# Altium footprint library linear-technology.PCBLIB: 28 footprints (part 1 of 2)
Each footprint in its own frame and in the unit in brackets; x right, y up, seen from the top. Pads: shape width x height; smd on the part's side, far side on the other; paste and mask are expansions set on the pad; w line width, h text height; cw(c..) or ccw(c..) is an arc to the next point about the centre after c.
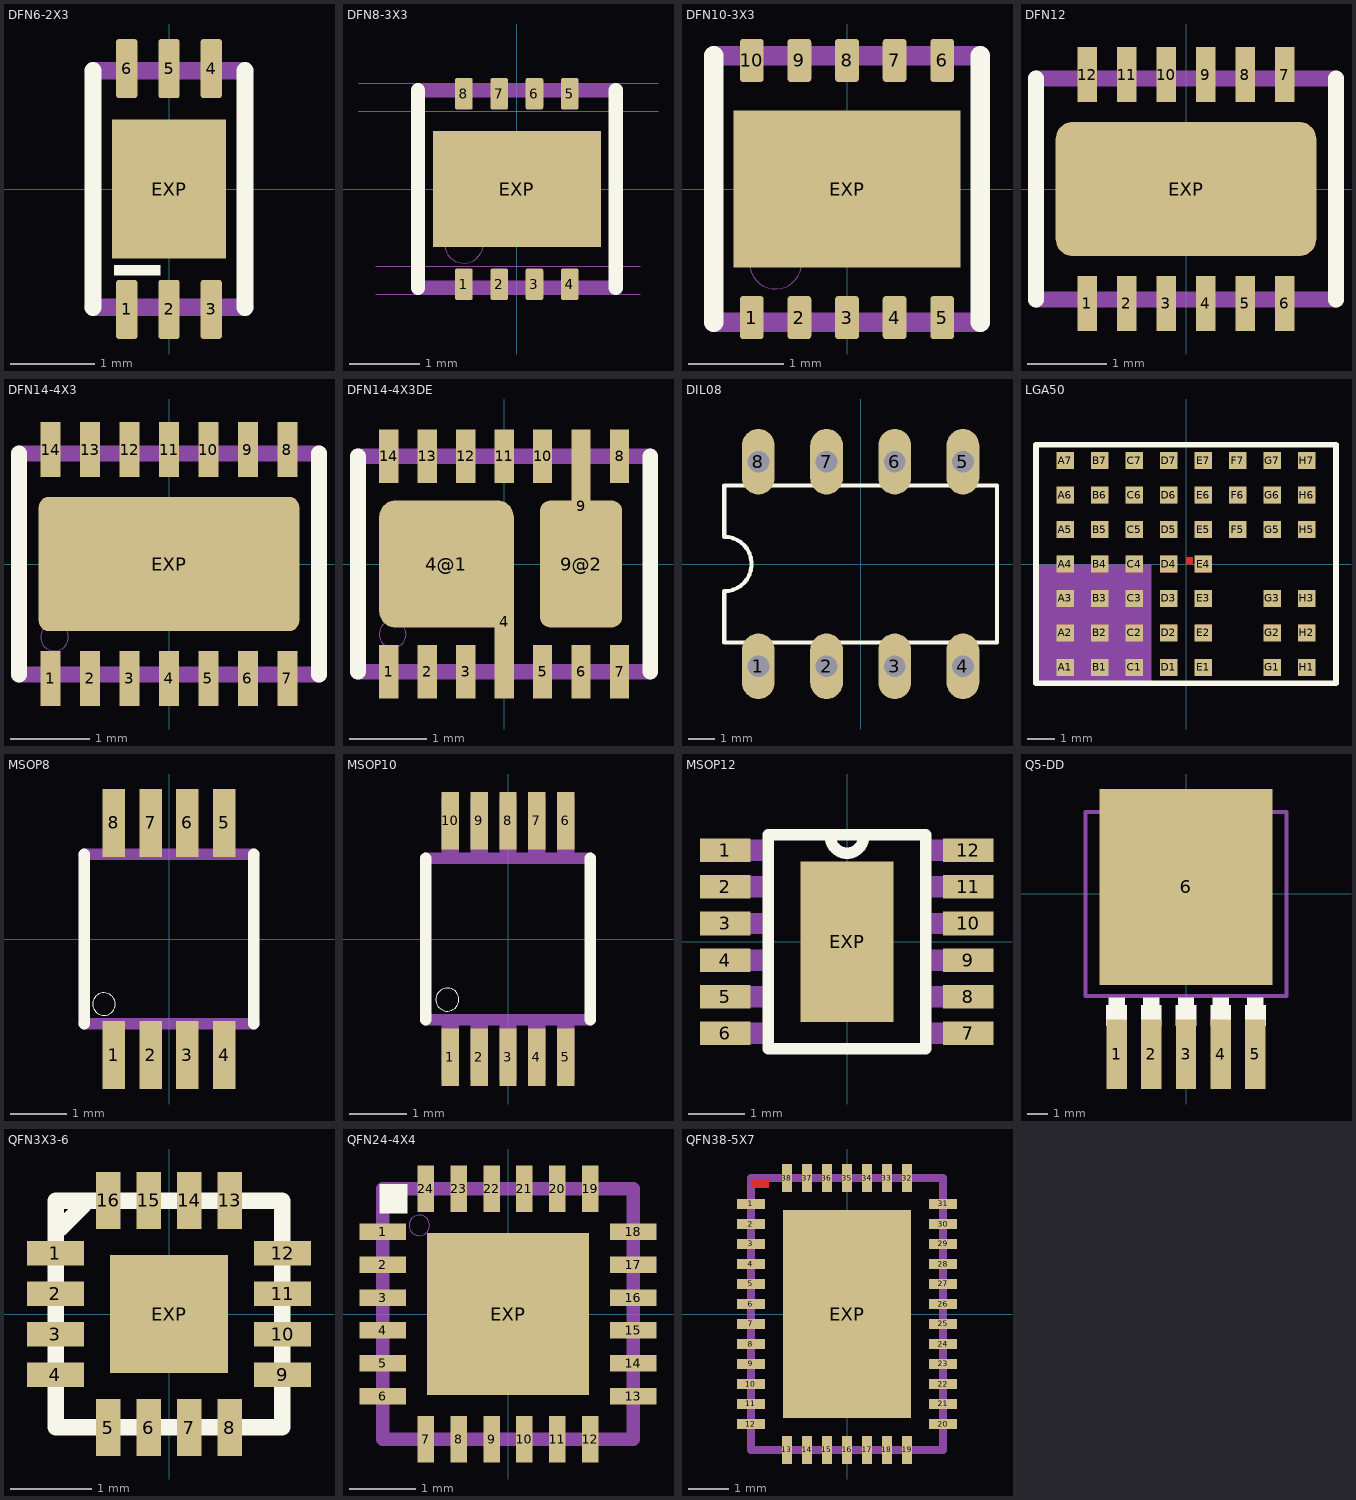
[diagram p0: the footprints below, top view; thin cyan lines are the x and y axes]

## DFN6-2X3 [mm]
pads (7):
  rrect25% 0.25x0.7 smd: 1(-0.5,-1.425) 2(0,-1.425) 3(0.5,-1.425) 4(0.5,1.425) 5(0,1.425) 6(-0.5,1.425)
  rect 1.35x1.65 smd: EXP(0,0)
Top Overlay:
  rectangle: -0.65,-1.025 -0.1,-0.9
  lines w0.203: -0.9,-1.4 -0.9,1.4 ; 0.9,-1.4 0.9,1.4
Mechanical 16:
  lines w0.203: -0.9,-1.4 0.9,-1.4 ; -0.9,1.4 0.9,1.4

## DFN8-3X3 [mm]
pads (9):
  rrect25% 0.25x0.45 smd: 1(-0.75,-1.35) 2(-0.25,-1.35) 3(0.25,-1.35) 4(0.75,-1.35) 5(0.75,1.35) 6(0.25,1.35) 7(-0.25,1.35) 8(-0.75,1.35)
  rect 2.38x1.65 smd: EXP(0,0)
Top Overlay:
  lines w0.203: -1.4,-1.4 -1.4,1.4 ; 1.4,-1.4 1.4,1.4
Top Paste:
  rectangle: -0.85,1.15 -0.65,1.55
  rectangle: -0.35,1.15 -0.15,1.55
  rectangle: 0.15,1.15 0.35,1.55
  rectangle: 0.65,1.15 0.85,1.55
  rectangle: -0.85,-1.55 -0.65,-1.15
  rectangle: -0.35,-1.55 -0.15,-1.15
  rectangle: 0.15,-1.55 0.35,-1.15
  rectangle: 0.65,-1.55 0.85,-1.15
  rectangle: -1.1,-0.75 1.125,0.75
Top Solder:
  rectangle: -0.9,1.1 -0.6,1.6
  rectangle: -0.4,1.1 -0.1,1.6
  rectangle: 0.1,1.1 0.4,1.6
  rectangle: 0.6,1.1 0.9,1.6
  rectangle: -0.9,-1.6 -0.6,-1.1
  rectangle: -0.4,-1.6 -0.1,-1.1
  rectangle: 0.1,-1.6 0.4,-1.1
  rectangle: 0.6,-1.6 0.9,-1.1
  region: 0,0 0.254,0 0.254,0.254 0,0.254
Mechanical 16:
  circle w0: c-0.75,-0.775 r0.275
  lines w0.203: -1.4,-1.4 1.4,-1.4 ; -1.4,1.4 1.4,1.4
Mechanical 19:
  lines w0: -2.25,1.1 2,1.1 ; -2.25,1.5 2,1.5 ; -2,-1.5 1.75,-1.5 ; -2,-1.1 1.75,-1.1

## DFN10-3X3 [mm]
pads (11):
  rrect25% 0.25x0.45 smd: 1(-1,-1.35) 2(-0.5,-1.35) 3(0,-1.35) 4(0.5,-1.35) 5(1,-1.35) 6(1,1.35) 7(0.5,1.35) 8(0,1.35) 9(-0.5,1.35) 10(-1,1.35)
  rect 2.38x1.65 smd: EXP(0,0)
Top Overlay:
  lines w0.203: -1.4,-1.4 -1.4,1.4 ; 1.4,-1.4 1.4,1.4
Mechanical 16:
  circle w0: c-0.75,-0.775 r0.275
  lines w0.203: -1.4,-1.4 1.4,-1.4 ; -1.4,1.4 1.4,1.4

## DFN12 [mm]
pads (13):
  rect 0.25x0.7 smd: 1(-1.25,-1.45) 2(-0.75,-1.45) 3(-0.25,-1.45) 4(0.25,-1.45) 5(0.75,-1.45) 6(1.25,-1.45) 7(1.25,1.45) 8(0.75,1.45) 9(0.25,1.45) 10(-0.25,1.45) 11(-0.75,1.45) 12(-1.25,1.45)
  rrect25% 3.3x1.7 smd: EXP(0,0)
Top Overlay:
  lines w0.203: -1.9,-1.4 -1.9,1.4 ; 1.9,-1.4 1.9,1.4
Top Paste:
  rectangle: -1.35,-1.775 -1.15,-1.125
  rectangle: -0.85,-1.775 -0.65,-1.125
  rectangle: -0.35,-1.775 -0.15,-1.125
  rectangle: 0.15,-1.775 0.35,-1.125
  rectangle: 0.65,-1.775 0.85,-1.125
  rectangle: 1.15,-1.775 1.35,-1.125
  region: 1.35,1.775 1.15,1.775 1.15,1.125 1.35,1.125
  region: 0.85,1.775 0.65,1.775 0.65,1.125 0.85,1.125
  region: 0.35,1.775 0.15,1.775 0.15,1.125 0.35,1.125
  region: -0.15,1.775 -0.35,1.775 -0.35,1.125 -0.15,1.125
  region: -0.65,1.775 -0.85,1.775 -0.85,1.125 -0.65,1.125
  region: -1.15,1.775 -1.35,1.775 -1.35,1.125 -1.15,1.125
  region: 0,0 0.254,0 0.254,0.254 0,0.254
Top Solder:
  rectangle: -1.4,-1.825 -1.1,-1.075
  rectangle: -0.9,-1.825 -0.6,-1.075
  rectangle: -0.4,-1.825 -0.1,-1.075
  rectangle: 0.1,-1.825 0.4,-1.075
  rectangle: 0.6,-1.825 0.9,-1.075
  rectangle: 1.1,-1.825 1.4,-1.075
  region: 1.4,1.825 1.1,1.825 1.1,1.075 1.4,1.075
  region: 0.9,1.825 0.6,1.825 0.6,1.075 0.9,1.075
  region: 0.4,1.825 0.1,1.825 0.1,1.075 0.4,1.075
  region: -0.1,1.825 -0.4,1.825 -0.4,1.075 -0.1,1.075
  region: -0.6,1.825 -0.9,1.825 -0.9,1.075 -0.6,1.075
  region: -1.1,1.825 -1.4,1.825 -1.4,1.075 -1.1,1.075
  region: 0,0 0.254,0 0.254,0.254 0,0.254
Mechanical 16:
  lines w0.203: -1.9,-1.4 1.9,-1.4 ; -1.9,1.4 1.9,1.4

## DFN14-4X3 [mm]
pads (15):
  rect 0.25x0.7 smd: 1(-1.5,-1.45) 2(-1,-1.45) 3(-0.5,-1.45) 4(0,-1.45) 5(0.5,-1.45) 6(1,-1.45) 7(1.5,-1.45) 8(1.5,1.45) 9(1,1.45) 10(0.5,1.45) 11(0,1.45) 12(-0.5,1.45) 13(-1,1.45) 14(-1.5,1.45)
  rrect15% 3.3x1.7 smd: EXP(0,0)
Top Overlay:
  lines w0.203: -1.9,-1.4 -1.9,1.4 ; 1.9,-1.4 1.9,1.4
Top Paste:
  region: 0,0 0.254,0 0.254,0.254 0,0.254
Top Solder:
  rectangle: -1.65,-1.825 -1.35,-1.075
  rectangle: -1.6,-1.775 -1.4,-1.125
  rectangle: -1.15,-1.825 -0.85,-1.075
  rectangle: -1.1,-1.775 -0.9,-1.125
  rectangle: -0.65,-1.825 -0.35,-1.075
  rectangle: -0.6,-1.775 -0.4,-1.125
  rectangle: -0.15,-1.825 0.15,-1.075
  rectangle: -0.1,-1.775 0.1,-1.125
  rectangle: 0.35,-1.825 0.65,-1.075
  rectangle: 0.4,-1.775 0.6,-1.125
  rectangle: 0.85,-1.825 1.15,-1.075
  rectangle: 0.9,-1.775 1.1,-1.125
  rectangle: 1.35,-1.825 1.65,-1.075
  rectangle: 1.4,-1.775 1.6,-1.125
  region: 1.65,1.825 1.35,1.825 1.35,1.075 1.65,1.075
  region: 1.6,1.775 1.4,1.775 1.4,1.125 1.6,1.125
  region: 1.15,1.825 0.85,1.825 0.85,1.075 1.15,1.075
  region: 1.1,1.775 0.9,1.775 0.9,1.125 1.1,1.125
  region: 0.65,1.825 0.35,1.825 0.35,1.075 0.65,1.075
  region: 0.6,1.775 0.4,1.775 0.4,1.125 0.6,1.125
  region: 0.15,1.825 -0.15,1.825 -0.15,1.075 0.15,1.075
  region: 0.1,1.775 -0.1,1.775 -0.1,1.125 0.1,1.125
  region: -0.35,1.825 -0.65,1.825 -0.65,1.075 -0.35,1.075
  region: -0.4,1.775 -0.6,1.775 -0.6,1.125 -0.4,1.125
  region: -0.85,1.825 -1.15,1.825 -1.15,1.075 -0.85,1.075
  region: -0.9,1.775 -1.1,1.775 -1.1,1.125 -0.9,1.125
  region: -1.35,1.825 -1.65,1.825 -1.65,1.075 -1.35,1.075
  region: -1.4,1.775 -1.6,1.775 -1.6,1.125 -1.4,1.125
  region: 0,0 0.254,0 0.254,0.254 0,0.254
Mechanical 16:
  circle w0: c-1.45,-0.925 r0.177
  lines w0.203: -1.9,-1.4 1.9,-1.4 ; -1.9,1.4 1.9,1.4

## DFN14-4X3DE [mm]
pads (16):
  rect 0.25x0.7 smd: 1(-1.5,-1.4) 2(-1,-1.4) 3(-0.5,-1.4) 5(0.5,-1.4) 6(1,-1.4) 7(1.5,-1.4) 8(1.5,1.4) 10(0.5,1.4) 11(0,1.4) 12(-0.5,1.4) 13(-1,1.4) 14(-1.5,1.4)
  rect 0.25x2 smd: 4(0,-0.75) 9(1,0.75)
  rrect25% 1.75x1.65 smd: 4@1(-0.75,0)
  rrect25% 1.07x1.65 smd: 9@2(1,0)
Top Overlay:
  lines w0.203: -1.9,-1.4 -1.9,1.4 ; 1.9,-1.4 1.9,1.4
Top Paste:
  rectangle: -1.55,-0.75 0.05,0.75
  rectangle: 0.525,-0.75 1.475,0.75
  rectangle: -1.6,-1.725 -1.4,-1.075
  rectangle: -1.1,-1.725 -0.9,-1.075
  rectangle: -0.6,-1.725 -0.4,-1.075
  rectangle: -0.1,-1.725 0.1,-1.075
  rectangle: 0.4,-1.725 0.6,-1.075
  rectangle: 0.9,-1.725 1.1,-1.075
  rectangle: 1.4,-1.725 1.6,-1.075
  region: 1.6,1.725 1.4,1.725 1.4,1.075 1.6,1.075
  region: 1.1,1.725 0.9,1.725 0.9,1.075 1.1,1.075
  region: 0.6,1.725 0.4,1.725 0.4,1.075 0.6,1.075
  region: 0.1,1.725 -0.1,1.725 -0.1,1.075 0.1,1.075
  region: -0.4,1.725 -0.6,1.725 -0.6,1.075 -0.4,1.075
  region: -0.9,1.725 -1.1,1.725 -1.1,1.075 -0.9,1.075
  region: -1.4,1.725 -1.6,1.725 -1.6,1.075 -1.4,1.075
Top Solder:
  rectangle: -1.65,-1.775 -1.35,-1.025
  rectangle: -1.625,-0.825 0.125,0.825
  rectangle: 0.45,-0.825 1.55,0.825
  rectangle: -1.15,-1.775 -0.85,-1.025
  rectangle: -0.65,-1.775 -0.35,-1.025
  rectangle: -0.15,-1.775 0.15,-1.025
  rectangle: 0.35,-1.775 0.65,-1.025
  rectangle: 0.85,-1.775 1.15,-1.025
  rectangle: 1.35,-1.775 1.65,-1.025
  region: 1.65,1.775 1.35,1.775 1.35,1.025 1.65,1.025
  region: 1.15,1.775 0.85,1.775 0.85,1.025 1.15,1.025
  region: 0.65,1.775 0.35,1.775 0.35,1.025 0.65,1.025
  region: 0.15,1.775 -0.15,1.775 -0.15,1.025 0.15,1.025
  region: -0.35,1.775 -0.65,1.775 -0.65,1.025 -0.35,1.025
  region: -0.85,1.775 -1.15,1.775 -1.15,1.025 -0.85,1.025
  region: -1.35,1.775 -1.65,1.775 -1.65,1.025 -1.35,1.025
Mechanical 16:
  circle w0: c-1.45,-0.913 r0.176
  lines w0.203: -1.9,-1.4 1.9,-1.4 ; -1.9,1.4 1.9,1.4

## DIL08 [mil]
pads (8):
  oval 48x96 hole 32: 1(-150,-150) 2(-50,-150) 3(50,-150) 4(150,-150) 5(150,150) 6(50,150) 7(-50,150) 8(-150,150)
Top Overlay:
  lines w6: -200,-115 200,-115 200,115 -200,115 -200,40 cw(c-200,0) -200,-40 -200,-115

## LGA50 [mm]
pads (50):
  rect 0.635x0.635 smd: A1(-4.445,-3.81) A2(-4.445,-2.54) A3(-4.445,-1.27) A4(-4.445,0) A5(-4.445,1.27) A6(-4.445,2.54) A7(-4.445,3.81) B1(-3.175,-3.81) B2(-3.175,-2.54) B3(-3.175,-1.27) B4(-3.175,0) B5(-3.175,1.27) B6(-3.175,2.54) B7(-3.175,3.81) C1(-1.905,-3.81) C2(-1.905,-2.54) C3(-1.905,-1.27) C4(-1.905,0) C5(-1.905,1.27) C6(-1.905,2.54) C7(-1.905,3.81) D1(-0.635,-3.81) D2(-0.635,-2.54) D3(-0.635,-1.27) D4(-0.635,0) D5(-0.635,1.27) D6(-0.635,2.54) D7(-0.635,3.81) E1(0.635,-3.81) E2(0.635,-2.54) E3(0.635,-1.27) E4(0.635,0) E5(0.635,1.27) E6(0.635,2.54) E7(0.635,3.81) F5(1.905,1.27) F6(1.905,2.54) F7(1.905,3.81) G1(3.175,-3.81) G2(3.175,-2.54) G3(3.175,-1.27) G5(3.175,1.27) G6(3.175,2.54) G7(3.175,3.81) H1(4.445,-3.81) H2(4.445,-2.54) H3(4.445,-1.27) H5(4.445,1.27) H6(4.445,2.54) H7(4.445,3.81)
Top Layer:
  rectangle: -3.48,-4.115 -2.87,-3.505
  rectangle: -2.21,-4.115 -1.6,-3.505
  rectangle: -0.94,-4.115 -0.33,-3.505
  rectangle: 0.33,-4.115 0.94,-3.505
  rectangle: 2.87,-4.115 3.48,-3.505
  rectangle: 4.14,-4.115 4.75,-3.505
  rectangle: -4.75,-2.845 -4.14,-2.235
  rectangle: -3.48,-2.845 -2.87,-2.235
  rectangle: -2.21,-2.845 -1.6,-2.235
  rectangle: -0.94,-2.845 -0.33,-2.235
  rectangle: 0.33,-2.845 0.94,-2.235
  rectangle: 2.87,-2.845 3.48,-2.235
  rectangle: 4.14,-2.845 4.75,-2.235
  rectangle: -4.75,-1.575 -4.14,-0.965
  rectangle: -3.48,-1.575 -2.87,-0.965
  rectangle: -2.21,-1.575 -1.6,-0.965
  rectangle: -0.94,-1.575 -0.33,-0.965
  rectangle: 0.33,-1.575 0.94,-0.965
  rectangle: 2.87,-1.575 3.48,-0.965
  rectangle: 4.14,-1.575 4.75,-0.965
  rectangle: -4.75,-0.305 -4.14,0.305
  rectangle: -3.48,-0.305 -2.87,0.305
  rectangle: -2.21,-0.305 -1.6,0.305
  rectangle: -0.94,-0.305 -0.33,0.305
  rectangle: 0.33,-0.305 0.94,0.305
  rectangle: -4.75,0.965 -4.14,1.575
  rectangle: -3.48,0.965 -2.87,1.575
  rectangle: -2.21,0.965 -1.6,1.575
  rectangle: -0.94,0.965 -0.33,1.575
  rectangle: 0.33,0.965 0.94,1.575
  rectangle: 1.6,0.965 2.21,1.575
  rectangle: 2.87,0.965 3.48,1.575
  rectangle: 4.14,0.965 4.75,1.575
  rectangle: -4.75,2.235 -4.14,2.845
  rectangle: -3.48,2.235 -2.87,2.845
  rectangle: -2.21,2.235 -1.6,2.845
  rectangle: -0.94,2.235 -0.33,2.845
  rectangle: 0.33,2.235 0.94,2.845
  rectangle: 1.6,2.235 2.21,2.845
  rectangle: 2.87,2.235 3.48,2.845
  rectangle: 4.14,2.235 4.75,2.845
  rectangle: -4.75,3.505 -4.14,4.115
  rectangle: -3.48,3.505 -2.87,4.115
  rectangle: -2.21,3.505 -1.6,4.115
  rectangle: -0.94,3.505 -0.33,4.115
  rectangle: 0.33,3.505 0.94,4.115
  rectangle: 1.6,3.505 2.21,4.115
  rectangle: 2.87,3.505 3.48,4.115
  rectangle: 4.14,3.505 4.75,4.115
  region: 0,0 0.254,0 0.254,0.254 0,0.254
Top Overlay:
  lines w0.203: -5.525,-4.4 5.525,-4.4 5.525,4.4 -5.525,4.4 -5.525,-4.4
Top Solder:
  region: 0,0 0.254,0 0.254,0.254 0,0.254
Mechanical 16:
  rectangle: -5.5,-4.375 -1.275,-0.025

## MSOP8 [mm]
pads (8):
  rect 0.4x1.2 smd: 1(-0.975,-2.05) 2(-0.325,-2.05) 3(0.325,-2.05) 4(0.975,-2.05) 5(0.975,2.05) 6(0.325,2.05) 7(-0.325,2.05) 8(-0.975,2.05)
Top Overlay:
  circle w0: c-1.15,-1.15 r0.2
  lines w0.203: -1.5,-1.5 -1.5,1.5 ; 1.5,-1.5 1.5,1.5
Mechanical 16:
  rectangle: -1.125,-2.45 -0.825,-1.55
  rectangle: -0.475,-2.45 -0.175,-1.55
  rectangle: 0.175,-2.45 0.475,-1.55
  rectangle: 0.825,-2.45 1.125,-1.55
  rectangle: 0.825,1.55 1.125,2.45
  rectangle: 0.175,1.55 0.475,2.45
  rectangle: -0.475,1.55 -0.175,2.45
  rectangle: -1.125,1.55 -0.825,2.45
  lines w0.203: -1.5,-1.5 1.5,-1.5 ; -1.5,1.5 1.5,1.5

## MSOP10 [mm]
pads (10):
  rect 0.3x1 smd: 1(-1,-2.05) 2(-0.5,-2.05) 3(0,-2.05) 4(0.5,-2.05) 5(1,-2.05) 6(1,2.05) 7(0.5,2.05) 8(0,2.05) 9(-0.5,2.05) 10(-1,2.05)
Top Overlay:
  circle w0: c-1.05,-1.05 r0.2
  lines w0.203: -1.425,-1.4 -1.425,1.4 ; 1.425,-1.4 1.425,1.4
Top Paste:
  rectangle: -1.125,-2.5 -0.875,-1.625
  rectangle: -0.625,-2.5 -0.375,-1.625
  rectangle: -0.125,-2.5 0.125,-1.625
  rectangle: 0.375,-2.5 0.625,-1.625
  rectangle: 0.875,-2.5 1.125,-1.625
  region: 1.125,2.5 0.875,2.5 0.875,1.625 1.125,1.625
  region: 0.625,2.5 0.375,2.5 0.375,1.625 0.625,1.625
  region: 0.125,2.5 -0.125,2.5 -0.125,1.625 0.125,1.625
  region: -0.375,2.5 -0.625,2.5 -0.625,1.625 -0.375,1.625
  region: -0.875,2.5 -1.125,2.5 -1.125,1.625 -0.875,1.625
Top Solder:
  rectangle: -1.2,-2.6 -0.8,-1.5
  rectangle: -0.7,-2.6 -0.3,-1.5
  rectangle: -0.2,-2.6 0.2,-1.5
  rectangle: 0.3,-2.6 0.7,-1.5
  rectangle: 0.8,-2.6 1.2,-1.5
  region: 1.2,2.6 0.8,2.6 0.8,1.5 1.2,1.5
  region: 0.7,2.6 0.3,2.6 0.3,1.5 0.7,1.5
  region: 0.2,2.6 -0.2,2.6 -0.2,1.5 0.2,1.5
  region: -0.3,2.6 -0.7,2.6 -0.7,1.5 -0.3,1.5
  region: -0.8,2.6 -1.2,2.6 -1.2,1.5 -0.8,1.5
Mechanical 16:
  rectangle: -1.15,-2.45 -0.85,-1.475
  rectangle: -0.65,-2.45 -0.35,-1.475
  rectangle: -0.15,-2.45 0.15,-1.475
  rectangle: 0.35,-2.45 0.65,-1.475
  rectangle: 0.85,-2.45 1.15,-1.475
  region: 1.15,2.45 0.85,2.45 0.85,1.475 1.15,1.475
  region: 0.65,2.45 0.35,2.45 0.35,1.475 0.65,1.475
  region: 0.15,2.45 -0.15,2.45 -0.15,1.475 0.15,1.475
  region: -0.35,2.45 -0.65,2.45 -0.65,1.475 -0.35,1.475
  region: -0.85,2.45 -1.15,2.45 -1.15,1.475 -0.85,1.475
  lines w0.203: -1.425,-1.4 1.425,-1.4 ; -1.425,1.4 1.425,1.4

## MSOP12 [mm]
pads (13):
  rect 0.9x0.42 smd: 1(-2.163,1.625) 2(-2.163,0.975) 3(-2.163,0.325) 4(-2.163,-0.325) 5(-2.163,-0.975) 6(-2.163,-1.625) 7(2.15,-1.625) 8(2.15,-0.975) 9(2.15,-0.325) 10(2.15,0.325) 11(2.15,0.975) 12(2.15,1.625)
  rect 1.65x2.85 smd: EXP(0,0)
Top Overlay:
  lines w0.203: -0.3,1.874 ccw(c0,1.874) 0.3,1.874 ; -1.399,-1.898 1.399,-1.898 1.399,1.898 -1.399,1.898 -1.399,-1.898
Top Solder:
  rectangle: -2.662,1.388 -1.675,1.863
  rectangle: -2.662,0.738 -1.675,1.213
  rectangle: -2.662,0.087 -1.675,0.563
  rectangle: -2.662,-0.563 -1.675,-0.087
  rectangle: -2.662,-1.213 -1.675,-0.738
  rectangle: -2.662,-1.863 -1.675,-1.388
  region: 2.662,-1.388 1.675,-1.388 1.675,-1.863 2.662,-1.863
  region: 2.662,-0.738 1.675,-0.738 1.675,-1.213 2.662,-1.213
  region: 2.662,-0.087 1.675,-0.087 1.675,-0.563 2.662,-0.563
  region: 2.662,0.563 1.675,0.563 1.675,0.087 2.662,0.087
  region: 2.662,1.213 1.675,1.213 1.675,0.738 2.662,0.738
  region: 2.662,1.863 1.675,1.863 1.675,1.388 2.662,1.388
Mechanical 16:
  rectangle: -2.45,1.435 -1.5,1.815
  rectangle: -2.45,0.785 -1.5,1.165
  rectangle: -2.45,0.135 -1.5,0.515
  rectangle: -2.45,-0.515 -1.5,-0.135
  rectangle: -2.45,-1.165 -1.5,-0.785
  rectangle: -2.45,-1.815 -1.5,-1.435
  rectangle: 1.5,-1.815 2.45,-1.435
  rectangle: 1.5,-1.165 2.45,-0.785
  rectangle: 1.5,-0.515 2.45,-0.135
  rectangle: 1.5,0.135 2.45,0.515
  rectangle: 1.5,0.785 2.45,1.165
  rectangle: 1.5,1.435 2.45,1.815

## Q5-DD [mm]
pads (6):
  rect 1x3.4 smd: 1(-3.4,-7.875) 2(-1.7,-7.875) 3(0,-7.875) 4(1.7,-7.875) 5(3.4,-7.875)
  rect 8.5x9.6 smd: 6(0,0.325)
Top Overlay:
  rectangle: -0.508,-6.477 0.508,-5.461
  rectangle: -3.908,-6.477 -2.892,-5.461
  rectangle: -2.208,-6.477 -1.192,-5.461
  rectangle: 1.192,-6.477 2.208,-5.461
  rectangle: 2.892,-6.477 3.908,-5.461
  rectangle: -3.8,-5.5 -3,-5.1
  rectangle: -2.1,-5.5 -1.3,-5.1
  rectangle: -0.4,-5.5 0.4,-5.1
  rectangle: 1.3,-5.5 2.1,-5.1
  rectangle: 3,-5.5 3.8,-5.1
Mechanical 16:
  circle w0.254: c0,-0.175 r1
  rectangle: -0.381,-8.768 0.381,-5.974
  rectangle: -3.781,-8.768 -3.019,-5.974
  rectangle: -2.081,-8.768 -1.319,-5.974
  rectangle: 1.319,-8.768 2.081,-5.974
  rectangle: 3.019,-8.768 3.781,-5.974
  region: 0,0 0.254,0 0.254,0.254 0,0.254
  lines w0.203: -4.917,-5.014 4.917,-5.014 4.917,3.99 -4.917,3.99 -4.917,-5.014

## QFN3X3-6 [mm]
pads (17):
  rect 0.7x0.3 smd: 1(-1.4,0.75) 2(-1.4,0.25) 3(-1.4,-0.25) 4(-1.4,-0.75) 9(1.4,-0.75) 10(1.4,-0.25) 11(1.4,0.25) 12(1.4,0.75)
  rect 0.3x0.7 smd: 5(-0.75,-1.4) 6(-0.25,-1.4) 7(0.25,-1.4) 8(0.75,-1.4) 13(0.75,1.4) 14(0.25,1.4) 15(-0.25,1.4) 16(-0.75,1.4)
  rect 1.45x1.45 smd: EXP(0,0)
Top Overlay:
  lines w0.203: -1.348,1.05 -1.05,1.348 ; -1.399,-1.399 1.399,-1.399 1.399,1.399 -1.399,1.399 -1.399,-1.399
Top Solder:
  rectangle: -1.85,0.55 -1,0.95
  rectangle: -1.85,0.05 -1,0.45
  rectangle: -1.85,-0.45 -1,-0.05
  rectangle: -1.85,-0.95 -1,-0.55
  region: -0.55,-1.85 -0.55,-1 -0.95,-1 -0.95,-1.85
  region: -0.05,-1.85 -0.05,-1 -0.45,-1 -0.45,-1.85
  region: 0.45,-1.85 0.45,-1 0.05,-1 0.05,-1.85
  region: 0.95,-1.85 0.95,-1 0.55,-1 0.55,-1.85
  region: 1.85,-0.55 1,-0.55 1,-0.95 1.85,-0.95
  region: 1.85,-0.05 1,-0.05 1,-0.45 1.85,-0.45
  region: 1.85,0.45 1,0.45 1,0.05 1.85,0.05
  region: 1.85,0.95 1,0.95 1,0.55 1.85,0.55
  region: 0.55,1.85 0.55,1 0.95,1 0.95,1.85
  region: 0.05,1.85 0.05,1 0.45,1 0.45,1.85
  region: -0.45,1.85 -0.45,1 -0.05,1 -0.05,1.85
  region: -0.95,1.85 -0.95,1 -0.55,1 -0.55,1.85
  rectangle: -0.8,-0.8 0.8,0.8

## QFN3X3-16 [mm]

## QFN24-4X4 [mm]
pads (25):
  rect 0.7x0.25 smd: 1(-1.9,1.25) 2(-1.9,0.75) 3(-1.9,0.25) 4(-1.9,-0.25) 5(-1.9,-0.75) 6(-1.9,-1.25) 13(1.9,-1.25) 14(1.9,-0.75) 15(1.9,-0.25) 16(1.9,0.25) 17(1.9,0.75) 18(1.9,1.25)
  rect 0.25x0.7 smd: 7(-1.25,-1.9) 8(-0.75,-1.9) 9(-0.25,-1.9) 10(0.25,-1.9) 11(0.75,-1.9) 12(1.25,-1.9) 19(1.25,1.9) 20(0.75,1.9) 21(0.25,1.9) 22(-0.25,1.9) 23(-0.75,1.9) 24(-1.25,1.9)
  rect 2.45x2.45 smd: EXP(0,0)
Top Overlay:
  rectangle: -1.95,1.525 -1.525,1.975
Top Paste:
  rectangle: -2.2,1.15 -1.575,1.35
  rectangle: -2.2,0.65 -1.575,0.85
  rectangle: -2.2,0.15 -1.575,0.35
  rectangle: -2.2,-0.35 -1.575,-0.15
  rectangle: -2.2,-0.85 -1.575,-0.65
  rectangle: -2.2,-1.35 -1.575,-1.15
  region: -1.15,-2.2 -1.15,-1.575 -1.35,-1.575 -1.35,-2.2
  region: -0.65,-2.2 -0.65,-1.575 -0.85,-1.575 -0.85,-2.2
  region: -0.15,-2.2 -0.15,-1.575 -0.35,-1.575 -0.35,-2.2
  region: 0.35,-2.2 0.35,-1.575 0.15,-1.575 0.15,-2.2
  region: 0.85,-2.2 0.85,-1.575 0.65,-1.575 0.65,-2.2
  region: 1.35,-2.2 1.35,-1.575 1.15,-1.575 1.15,-2.2
  region: 2.2,-1.15 1.575,-1.15 1.575,-1.35 2.2,-1.35
  region: 2.2,-0.65 1.575,-0.65 1.575,-0.85 2.2,-0.85
  region: 2.2,-0.15 1.575,-0.15 1.575,-0.35 2.2,-0.35
  region: 2.2,0.35 1.575,0.35 1.575,0.15 2.2,0.15
  region: 2.2,0.85 1.575,0.85 1.575,0.65 2.2,0.65
  region: 2.2,1.35 1.575,1.35 1.575,1.15 2.2,1.15
  region: 1.15,2.2 1.15,1.575 1.35,1.575 1.35,2.2
  region: 0.65,2.2 0.65,1.575 0.85,1.575 0.85,2.2
  region: 0.15,2.2 0.15,1.575 0.35,1.575 0.35,2.2
  region: -0.35,2.2 -0.35,1.575 -0.15,1.575 -0.15,2.2
  region: -0.85,2.2 -0.85,1.575 -0.65,1.575 -0.65,2.2
  region: -1.35,2.2 -1.35,1.575 -1.15,1.575 -1.15,2.2
  region: 0,0 0.254,0 0.254,0.254 0,0.254
Top Solder:
  rectangle: -2.275,1.1 -1.525,1.4
  rectangle: -2.275,0.6 -1.525,0.9
  rectangle: -2.275,0.1 -1.525,0.4
  rectangle: -2.275,-0.4 -1.525,-0.1
  rectangle: -2.275,-0.9 -1.525,-0.6
  rectangle: -2.275,-1.4 -1.525,-1.1
  region: -1.1,-2.275 -1.1,-1.525 -1.4,-1.525 -1.4,-2.275
  region: -0.6,-2.275 -0.6,-1.525 -0.9,-1.525 -0.9,-2.275
  region: -0.1,-2.275 -0.1,-1.525 -0.4,-1.525 -0.4,-2.275
  region: 0.4,-2.275 0.4,-1.525 0.1,-1.525 0.1,-2.275
  region: 0.9,-2.275 0.9,-1.525 0.6,-1.525 0.6,-2.275
  region: 1.4,-2.275 1.4,-1.525 1.1,-1.525 1.1,-2.275
  region: 2.275,-1.1 1.525,-1.1 1.525,-1.4 2.275,-1.4
  region: 2.275,-0.6 1.525,-0.6 1.525,-0.9 2.275,-0.9
  region: 2.275,-0.1 1.525,-0.1 1.525,-0.4 2.275,-0.4
  region: 2.275,0.4 1.525,0.4 1.525,0.1 2.275,0.1
  region: 2.275,0.9 1.525,0.9 1.525,0.6 2.275,0.6
  region: 2.275,1.4 1.525,1.4 1.525,1.1 2.275,1.1
  region: 1.1,2.275 1.1,1.525 1.4,1.525 1.4,2.275
  region: 0.6,2.275 0.6,1.525 0.9,1.525 0.9,2.275
  region: 0.1,2.275 0.1,1.525 0.4,1.525 0.4,2.275
  region: -0.4,2.275 -0.4,1.525 -0.1,1.525 -0.1,2.275
  region: -0.9,2.275 -0.9,1.525 -0.6,1.525 -0.6,2.275
  region: -1.4,2.275 -1.4,1.525 -1.1,1.525 -1.1,2.275
  region: 0,0 0.254,0 0.254,0.254 0,0.254
Mechanical 16:
  circle w0: c-1.345,1.345 r0.155
  lines w0.203: -1.9,-1.9 1.9,-1.9 1.9,1.9 -1.9,1.9 -1.9,-1.9

## QFN38-5X7 [mm]
pads (39):
  rect 0.7x0.25 smd: 1(-2.4,2.75) 2(-2.4,2.25) 3(-2.4,1.75) 4(-2.4,1.25) 5(-2.4,0.75) 6(-2.4,0.25) 7(-2.4,-0.25) 8(-2.4,-0.75) 9(-2.4,-1.25) 10(-2.4,-1.75) 11(-2.4,-2.25) 12(-2.4,-2.75) 20(2.4,-2.75) 21(2.4,-2.25) 22(2.4,-1.75) 23(2.4,-1.25) 24(2.4,-0.75) 25(2.4,-0.25) 26(2.4,0.25) 27(2.4,0.75) 28(2.4,1.25) 29(2.4,1.75) 30(2.4,2.25) 31(2.4,2.75)
  rect 0.25x0.7 smd: 13(-1.5,-3.4) 14(-1,-3.4) 15(-0.5,-3.4) 16(0,-3.4) 17(0.5,-3.4) 18(1,-3.4) 19(1.5,-3.4) 32(1.5,3.4) 33(1,3.4) 34(0.5,3.4) 35(0,3.4) 36(-0.5,3.4) 37(-1,3.4) 38(-1.5,3.4)
  rect 3.2x5.2 smd: EXP(0,0)
Top Layer:
  rectangle: -2.375,3.15 -1.95,3.375
Top Paste:
  rectangle: -2.725,2.65 -2.1,2.85
  rectangle: -1.525,-2.525 1.525,2.525
  rectangle: -2.725,2.15 -2.1,2.35
  rectangle: -2.725,1.65 -2.1,1.85
  rectangle: -2.725,1.15 -2.1,1.35
  rectangle: -2.725,0.65 -2.1,0.85
  rectangle: -2.725,0.15 -2.1,0.35
  rectangle: -2.725,-0.35 -2.1,-0.15
  rectangle: -2.725,-0.85 -2.1,-0.65
  rectangle: -2.725,-1.35 -2.1,-1.15
  rectangle: -2.725,-1.85 -2.1,-1.65
  rectangle: -2.725,-2.35 -2.1,-2.15
  rectangle: -2.725,-2.85 -2.1,-2.65
  region: -1.4,-3.725 -1.4,-3.1 -1.6,-3.1 -1.6,-3.725
  region: -0.9,-3.725 -0.9,-3.1 -1.1,-3.1 -1.1,-3.725
  region: -0.4,-3.725 -0.4,-3.1 -0.6,-3.1 -0.6,-3.725
  region: 0.1,-3.725 0.1,-3.1 -0.1,-3.1 -0.1,-3.725
  region: 0.6,-3.725 0.6,-3.1 0.4,-3.1 0.4,-3.725
  region: 1.1,-3.725 1.1,-3.1 0.9,-3.1 0.9,-3.725
  region: 1.6,-3.725 1.6,-3.1 1.4,-3.1 1.4,-3.725
  region: 2.725,-2.65 2.1,-2.65 2.1,-2.85 2.725,-2.85
  region: 2.725,-2.15 2.1,-2.15 2.1,-2.35 2.725,-2.35
  region: 2.725,-1.65 2.1,-1.65 2.1,-1.85 2.725,-1.85
  region: 2.725,-1.15 2.1,-1.15 2.1,-1.35 2.725,-1.35
  region: 2.725,-0.65 2.1,-0.65 2.1,-0.85 2.725,-0.85
  region: 2.725,-0.15 2.1,-0.15 2.1,-0.35 2.725,-0.35
  region: 2.725,0.35 2.1,0.35 2.1,0.15 2.725,0.15
  region: 2.725,0.85 2.1,0.85 2.1,0.65 2.725,0.65
  region: 2.725,1.35 2.1,1.35 2.1,1.15 2.725,1.15
  region: 2.725,1.85 2.1,1.85 2.1,1.65 2.725,1.65
  region: 2.725,2.35 2.1,2.35 2.1,2.15 2.725,2.15
  region: 2.725,2.85 2.1,2.85 2.1,2.65 2.725,2.65
  region: 1.4,3.725 1.4,3.1 1.6,3.1 1.6,3.725
  region: 0.9,3.725 0.9,3.1 1.1,3.1 1.1,3.725
  region: 0.4,3.725 0.4,3.1 0.6,3.1 0.6,3.725
  region: -0.1,3.725 -0.1,3.1 0.1,3.1 0.1,3.725
  region: -0.6,3.725 -0.6,3.1 -0.4,3.1 -0.4,3.725
  region: -1.1,3.725 -1.1,3.1 -0.9,3.1 -0.9,3.725
  region: -1.6,3.725 -1.6,3.1 -1.4,3.1 -1.4,3.725
Top Solder:
  rectangle: -2.8,2.575 -2,2.925
  rectangle: -1.675,-2.65 1.65,2.65
  rectangle: -2.8,2.075 -2,2.425
  rectangle: -2.8,1.575 -2,1.925
  rectangle: -2.8,1.075 -2,1.425
  rectangle: -2.8,0.575 -2,0.925
  rectangle: -2.8,0.075 -2,0.425
  rectangle: -2.8,-0.425 -2,-0.075
  rectangle: -2.8,-0.925 -2,-0.575
  rectangle: -2.8,-1.425 -2,-1.075
  rectangle: -2.8,-1.925 -2,-1.575
  rectangle: -2.8,-2.425 -2,-2.075
  rectangle: -2.8,-2.925 -2,-2.575
  region: -1.325,-3.8 -1.325,-3 -1.675,-3 -1.675,-3.8
  region: -0.825,-3.8 -0.825,-3 -1.175,-3 -1.175,-3.8
  region: -0.325,-3.8 -0.325,-3 -0.675,-3 -0.675,-3.8
  region: 0.175,-3.8 0.175,-3 -0.175,-3 -0.175,-3.8
  region: 0.675,-3.8 0.675,-3 0.325,-3 0.325,-3.8
  region: 1.175,-3.8 1.175,-3 0.825,-3 0.825,-3.8
  region: 1.675,-3.8 1.675,-3 1.325,-3 1.325,-3.8
  region: 2.8,-2.575 2,-2.575 2,-2.925 2.8,-2.925
  region: 2.8,-2.075 2,-2.075 2,-2.425 2.8,-2.425
  region: 2.8,-1.575 2,-1.575 2,-1.925 2.8,-1.925
  region: 2.8,-1.075 2,-1.075 2,-1.425 2.8,-1.425
  region: 2.8,-0.575 2,-0.575 2,-0.925 2.8,-0.925
  region: 2.8,-0.075 2,-0.075 2,-0.425 2.8,-0.425
  region: 2.8,0.425 2,0.425 2,0.075 2.8,0.075
  region: 2.8,0.925 2,0.925 2,0.575 2.8,0.575
  region: 2.8,1.425 2,1.425 2,1.075 2.8,1.075
  region: 2.8,1.925 2,1.925 2,1.575 2.8,1.575
  region: 2.8,2.425 2,2.425 2,2.075 2.8,2.075
  region: 2.8,2.925 2,2.925 2,2.575 2.8,2.575
  region: 1.325,3.8 1.325,3 1.675,3 1.675,3.8
  region: 0.825,3.8 0.825,3 1.175,3 1.175,3.8
  region: 0.325,3.8 0.325,3 0.675,3 0.675,3.8
  region: -0.175,3.8 -0.175,3 0.175,3 0.175,3.8
  region: -0.675,3.8 -0.675,3 -0.325,3 -0.325,3.8
  region: -1.175,3.8 -1.175,3 -0.825,3 -0.825,3.8
  region: -1.675,3.8 -1.675,3 -1.325,3 -1.325,3.8
Mechanical 16:
  lines w0.203: -2.4,-3.4 2.4,-3.4 2.4,3.4 -2.4,3.4 -2.4,-3.4